# EAGLE library part ATSAM4E16E (library Atmel)
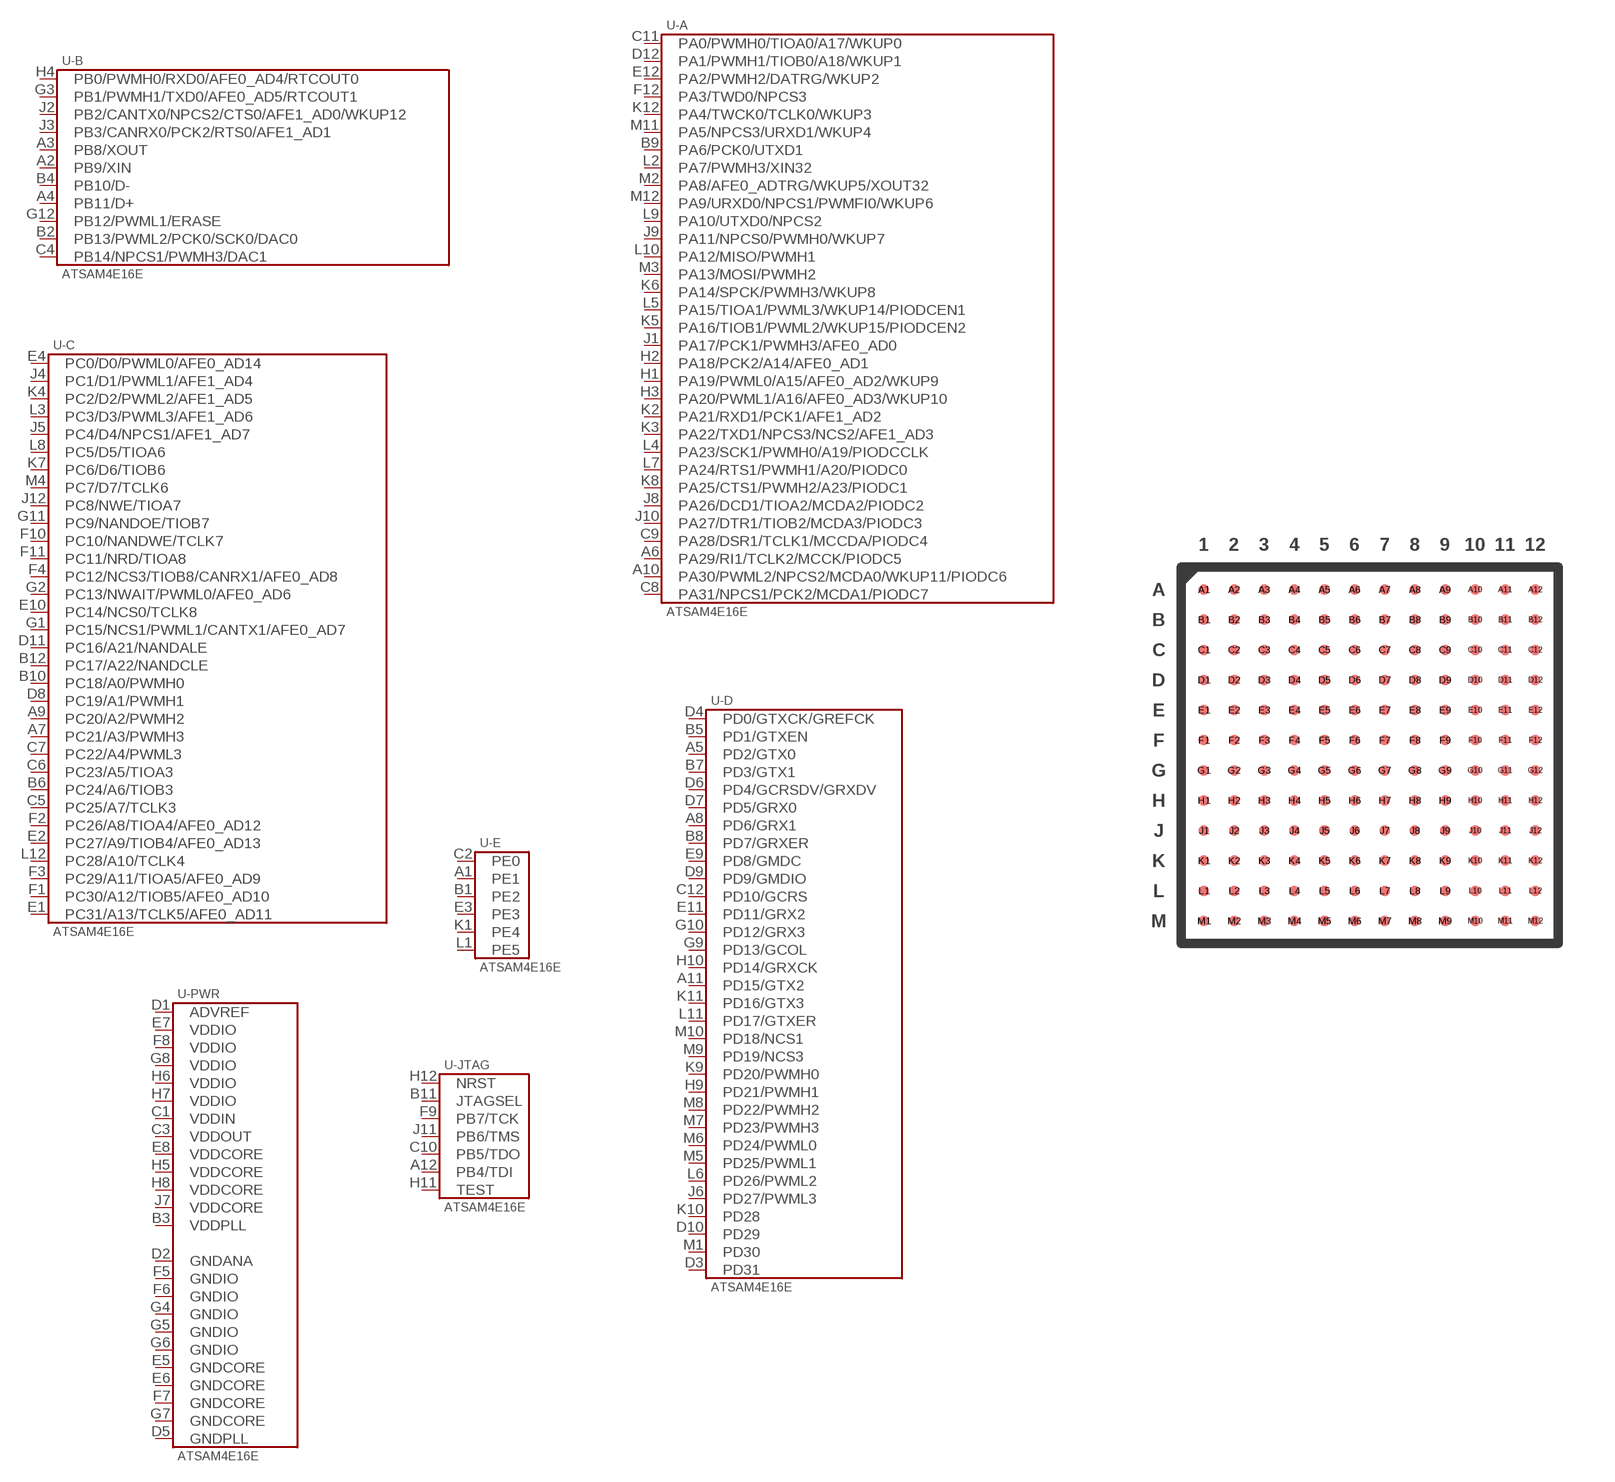
[diagram p8: symbol with the pads of LFBGA-144; footprint LFBGA-144]

Designator prefix U; gates -A=ATSAM4E16E-A -B=ATSAM4E16E-B -C=ATSAM4E16E-C -D=ATSAM4E16E-D -E=ATSAM4E16E-E -JTAG=ATSAM4E16E-JTAG -PWR=ATSAM4E16E-PWR

## ATSAM4E16E-LFBGA  [LFBGA-144]
A1  -E:PE1
A2  -B:PB9/XIN
A3  -B:PB8/XOUT
A4  -B:PB11/D+
A5  -D:PD2/GTX0
A6  -A:PA29/RI1/TCLK2/MCCK/PIODC5
A7  -C:PC21/A3/PWMH3
A8  -D:PD6/GRX1
A9  -C:PC20/A2/PWMH2
A10  -A:PA30/PWML2/NPCS2/MCDA0/WKUP11/PIODC6
A11  -D:PD15/GTX2
A12  -JTAG:PB4/TDI
B1  -E:PE2
B2  -B:PB13/PWML2/PCK0/SCK0/DAC0
B3  -PWR:VDDPLL
B4  -B:PB10/D-
B5  -D:PD1/GTXEN
B6  -C:PC24/A6/TIOB3
B7  -D:PD3/GTX1
B8  -D:PD7/GRXER
B9  -A:PA6/PCK0/UTXD1
B10  -C:PC18/A0/PWMH0
B11  -JTAG:JTAGSEL
B12  -C:PC17/A22/NANDCLE
C1  -PWR:VDDIN
C2  -E:PE0
C3  -PWR:VDDOUT
C4  -B:PB14/NPCS1/PWMH3/DAC1
C5  -C:PC25/A7/TCLK3
C6  -C:PC23/A5/TIOA3
C7  -C:PC22/A4/PWML3
C8  -A:PA31/NPCS1/PCK2/MCDA1/PIODC7
C9  -A:PA28/DSR1/TCLK1/MCCDA/PIODC4
C10  -JTAG:PB5/TDO
C11  -A:PA0/PWMH0/TIOA0/A17/WKUP0
C12  -D:PD10/GCRS
D1  -PWR:ADVREF
D2  -PWR:GNDANA
D3  -D:PD31
D4  -D:PD0/GTXCK/GREFCK
D5  -PWR:GNDPLL
D6  -D:PD4/GCRSDV/GRXDV
D7  -D:PD5/GRX0
D8  -C:PC19/A1/PWMH1
D9  -D:PD9/GMDIO
D10  -D:PD29
D11  -C:PC16/A21/NANDALE
D12  -A:PA1/PWMH1/TIOB0/A18/WKUP1
E1  -C:PC31/A13/TCLK5/AFE0_AD11
E2  -C:PC27/A9/TIOB4/AFE0_AD13
E3  -E:PE3
E4  -C:PC0/D0/PWML0/AFE0_AD14
E5  -PWR:GNDCORE
E6  -PWR:GNDCORE
E7  -PWR:VDDIO
E8  -PWR:VDDCORE
E9  -D:PD8/GMDC
E10  -C:PC14/NCS0/TCLK8
E11  -D:PD11/GRX2
E12  -A:PA2/PWMH2/DATRG/WKUP2
F1  -C:PC30/A12/TIOB5/AFE0_AD10
F2  -C:PC26/A8/TIOA4/AFE0_AD12
F3  -C:PC29/A11/TIOA5/AFE0_AD9
F4  -C:PC12/NCS3/TIOB8/CANRX1/AFE0_AD8
F5  -PWR:GNDIO
F6  -PWR:GNDIO
F7  -PWR:GNDCORE
F8  -PWR:VDDIO
F9  -JTAG:PB7/TCK
F10  -C:PC10/NANDWE/TCLK7
F11  -C:PC11/NRD/TIOA8
F12  -A:PA3/TWD0/NPCS3
G1  -C:PC15/NCS1/PWML1/CANTX1/AFE0_AD7
G2  -C:PC13/NWAIT/PWML0/AFE0_AD6
G3  -B:PB1/PWMH1/TXD0/AFE0_AD5/RTCOUT1
G4  -PWR:GNDIO
G5  -PWR:GNDIO
G6  -PWR:GNDIO
G7  -PWR:GNDCORE
G8  -PWR:VDDIO
G9  -D:PD13/GCOL
G10  -D:PD12/GRX3
G11  -C:PC9/NANDOE/TIOB7
G12  -B:PB12/PWML1/ERASE
H1  -A:PA19/PWML0/A15/AFE0_AD2/WKUP9
H2  -A:PA18/PCK2/A14/AFE0_AD1
H3  -A:PA20/PWML1/A16/AFE0_AD3/WKUP10
H4  -B:PB0/PWMH0/RXD0/AFE0_AD4/RTCOUT0
H5  -PWR:VDDCORE
H6  -PWR:VDDIO
H7  -PWR:VDDIO
H8  -PWR:VDDCORE
H9  -D:PD21/PWMH1
H10  -D:PD14/GRXCK
H11  -JTAG:TEST
H12  -JTAG:NRST
J1  -A:PA17/PCK1/PWMH3/AFE0_AD0
J2  -B:PB2/CANTX0/NPCS2/CTS0/AFE1_AD0/WKUP12
J3  -B:PB3/CANRX0/PCK2/RTS0/AFE1_AD1
J4  -C:PC1/D1/PWML1/AFE1_AD4
J5  -C:PC4/D4/NPCS1/AFE1_AD7
J6  -D:PD27/PWML3
J7  -PWR:VDDCORE
J8  -A:PA26/DCD1/TIOA2/MCDA2/PIODC2
J9  -A:PA11/NPCS0/PWMH0/WKUP7
J10  -A:PA27/DTR1/TIOB2/MCDA3/PIODC3
J11  -JTAG:PB6/TMS
J12  -C:PC8/NWE/TIOA7
K1  -E:PE4
K2  -A:PA21/RXD1/PCK1/AFE1_AD2
K3  -A:PA22/TXD1/NPCS3/NCS2/AFE1_AD3
K4  -C:PC2/D2/PWML2/AFE1_AD5
K5  -A:PA16/TIOB1/PWML2/WKUP15/PIODCEN2
K6  -A:PA14/SPCK/PWMH3/WKUP8
K7  -C:PC6/D6/TIOB6
K8  -A:PA25/CTS1/PWMH2/A23/PIODC1
K9  -D:PD20/PWMH0
K10  -D:PD28
K11  -D:PD16/GTX3
K12  -A:PA4/TWCK0/TCLK0/WKUP3
L1  -E:PE5
L2  -A:PA7/PWMH3/XIN32
L3  -C:PC3/D3/PWML3/AFE1_AD6
L4  -A:PA23/SCK1/PWMH0/A19/PIODCCLK
L5  -A:PA15/TIOA1/PWML3/WKUP14/PIODCEN1
L6  -D:PD26/PWML2
L7  -A:PA24/RTS1/PWMH1/A20/PIODC0
L8  -C:PC5/D5/TIOA6
L9  -A:PA10/UTXD0/NPCS2
L10  -A:PA12/MISO/PWMH1
L11  -D:PD17/GTXER
L12  -C:PC28/A10/TCLK4
M1  -D:PD30
M2  -A:PA8/AFE0_ADTRG/WKUP5/XOUT32
M3  -A:PA13/MOSI/PWMH2
M4  -C:PC7/D7/TCLK6
M5  -D:PD25/PWML1
M6  -D:PD24/PWML0
M7  -D:PD23/PWMH3
M8  -D:PD22/PWMH2
M9  -D:PD19/NCS3
M10  -D:PD18/NCS1
M11  -A:PA5/NPCS3/URXD1/WKUP4
M12  -A:PA9/URXD0/NPCS1/PWMFI0/WKUP6

## Footprint LFBGA-144 (pad centres in mm)
smd 0.28 x 0.28: A1 -4.4,4.4; A2 -3.6,4.4; A3 -2.8,4.4; A4 -2,4.4; A5 -1.2,4.4; A6 -0.4,4.4; A7 0.4,4.4; A8 1.2,4.4; A9 2,4.4; A10 2.8,4.4; A11 3.6,4.4; A12 4.4,4.4; B1 -4.4,3.6; B2 -3.6,3.6; B3 -2.8,3.6; B4 -2,3.6; B5 -1.2,3.6; B6 -0.4,3.6; B7 0.4,3.6; B8 1.2,3.6; B9 2,3.6; B10 2.8,3.6; B11 3.6,3.6; B12 4.4,3.6; C1 -4.4,2.8; C2 -3.6,2.8; C3 -2.8,2.8; C4 -2,2.8; C5 -1.2,2.8; C6 -0.4,2.8; C7 0.4,2.8; C8 1.2,2.8; C9 2,2.8; C10 2.8,2.8; C11 3.6,2.8; C12 4.4,2.8; D1 -4.4,2; D2 -3.6,2; D3 -2.8,2; D4 -2,2; D5 -1.2,2; D6 -0.4,2; D7 0.4,2; D8 1.2,2; D9 2,2; D10 2.8,2; D11 3.6,2; D12 4.4,2; E1 -4.4,1.2; E2 -3.6,1.2; E3 -2.8,1.2; E4 -2,1.2; E5 -1.2,1.2; E6 -0.4,1.2; E7 0.4,1.2; E8 1.2,1.2; E9 2,1.2; E10 2.8,1.2; E11 3.6,1.2; E12 4.4,1.2; F1 -4.4,0.4; F2 -3.6,0.4; F3 -2.8,0.4; F4 -2,0.4; F5 -1.2,0.4; F6 -0.4,0.4; F7 0.4,0.4; F8 1.2,0.4; F9 2,0.4; F10 2.8,0.4; F11 3.6,0.4; F12 4.4,0.4; G1 -4.4,-0.4; G2 -3.6,-0.4; G3 -2.8,-0.4; G4 -2,-0.4; G5 -1.2,-0.4; G6 -0.4,-0.4; G7 0.4,-0.4; G8 1.2,-0.4; G9 2,-0.4; G10 2.8,-0.4; G11 3.6,-0.4; G12 4.4,-0.4; H1 -4.4,-1.2; H2 -3.6,-1.2; H3 -2.8,-1.2; H4 -2,-1.2; H5 -1.2,-1.2; H6 -0.4,-1.2; H7 0.4,-1.2; H8 1.2,-1.2; H9 2,-1.2; H10 2.8,-1.2; H11 3.6,-1.2; H12 4.4,-1.2; J1 -4.4,-2; J2 -3.6,-2; J3 -2.8,-2; J4 -2,-2; J5 -1.2,-2; J6 -0.4,-2; J7 0.4,-2; J8 1.2,-2; J9 2,-2; J10 2.8,-2; J11 3.6,-2; J12 4.4,-2; K1 -4.4,-2.8; K2 -3.6,-2.8; K3 -2.8,-2.8; K4 -2,-2.8; K5 -1.2,-2.8; K6 -0.4,-2.8; K7 0.4,-2.8; K8 1.2,-2.8; K9 2,-2.8; K10 2.8,-2.8; K11 3.6,-2.8; K12 4.4,-2.8; L1 -4.4,-3.6; L2 -3.6,-3.6; L3 -2.8,-3.6; L4 -2,-3.6; L5 -1.2,-3.6; L6 -0.4,-3.6; L7 0.4,-3.6; L8 1.2,-3.6; L9 2,-3.6; L10 2.8,-3.6; L11 3.6,-3.6; L12 4.4,-3.6; M1 -4.4,-4.4; M2 -3.6,-4.4; M3 -2.8,-4.4; M4 -2,-4.4; M5 -1.2,-4.4; M6 -0.4,-4.4; M7 0.4,-4.4; M8 1.2,-4.4; M9 2,-4.4; M10 2.8,-4.4; M11 3.6,-4.4; M12 4.4,-4.4